# EAGLE library part MSP430G2231 (library Electronic Synchronized Fireflies)
MSP430G2231 TSSOP (PW) 14 Pin Package http://focus.ti.com/docs/prod/folders/print/msp430g2231.html
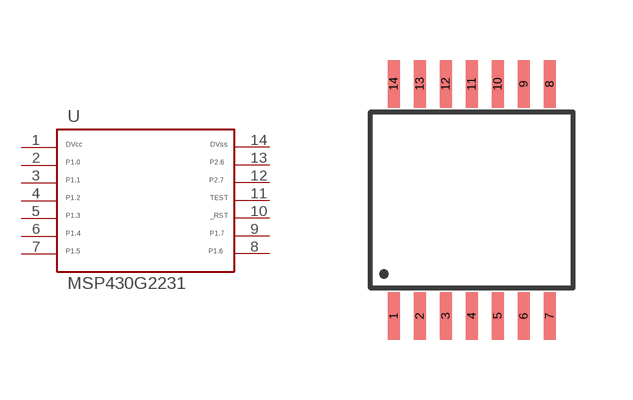
[diagram p0: symbol with the pads of TSSOP-14; footprint TSSOP-14]

Designator prefix U

## MSP430G2231  [TSSOP-14]
1  1
2  2
3  3
4  4
5  5
6  6
7  7
8  8
9  9
10  10
11  11
12  12
13  13
14  14

## Footprint TSSOP-14 (pad centres in mm)
*** TI: PW *** JEDEC: R-PDSO-G14 *** 14 PINS ***
smd 0.3 x 1.2: 1 -1.95,-2.9; 2 -1.3,-2.9; 3 -0.65,-2.9; 4 0,-2.9; 5 0.65,-2.9; 6 1.3,-2.9; 7 1.95,-2.9; 8 1.95,2.9; 9 1.3,2.9; 10 0.65,2.9; 11 0,2.9; 12 -0.65,2.9; 13 -1.3,2.9; 14 -1.95,2.9